# EAGLE library part SY8303 (library SY8303)
SY8303 40v 3A Buck Fsw = 1e11/Rfs Vfb = 0.6v Vin(min) = 4.5v Cbst = 10nF Iq = 18µA (Ven > 1.5v) Idis = 1-2µA (Ven < 0.6v)
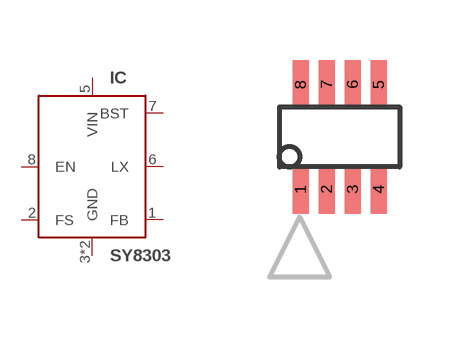
[diagram p0: symbol with the pads of SOT23-8; footprint SOT23-8]

Designator prefix IC

## SY8303 (MARK: XD___; MF: SILERGY; MPN: SY8303AIC)  [SOT23-8]
1  FB  in
2  FS
3  GND  pwr
4  GND  pwr
5  VIN  in
6  LX  out
7  BST
8  EN  in

## Footprint SOT23-8 (pad centres in mm)
smd 0.4 x 1.22: 1 -0.975,-1.31; 2 -0.325,-1.31; 3 0.325,-1.31; 4 0.975,-1.31; 5 0.975,1.31; 6 0.325,1.31; 7 -0.325,1.31; 8 -0.975,1.31